# Altium schematic symbol library 0805 4.7uF 25V.Schlib: 1 symbol
Pins are listed as number, name and electrical type; pins without a type are passive.

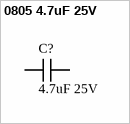
[diagram p0: symbol 0805 4.7uF 25V]

## 0805 4.7uF 25V
designator C?, comment value 4.7uF 25V  (hidden comment: Capacitor)
4.7uF ±10% 25V X5R 0805 Multilayer Ceramic Capacitors MLCC - SMD/SMT RoHS; LCSC Part #: C1779
footprint CAP 0805_2012 (Chip Capacitor, 2-Leads, Body 2.00x1.20mm, IPC Medium Density)
pins: 1, 2